# EAGLE library part INA240A1PWR (library INA240A1PWR)
-4 to 80V, bidirectional, ultra-precise current sense amplifier with enhanced PWM rejection 8-TSSOP -40 to 125 Check availability <https://pricing.snapeda.com/parts/INA240A1PWR/Texas%20Instruments/view-part?ref=eda>
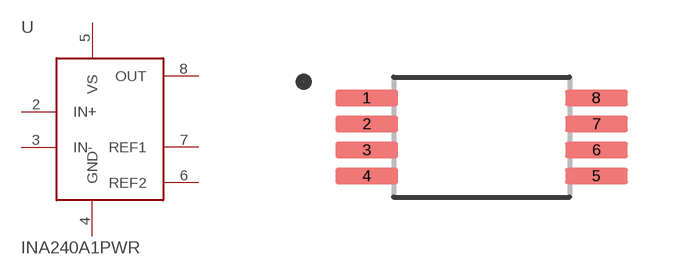
[diagram p0: symbol with the pads of SOP65P640X120-8N; footprint SOP65P640X120-8N]

Designator prefix U

## INA240A1PWR (AVAILABILITY: In Stock; DESCRIPTION: -4 to 80V, bidirectional, ultra-precise current sense amplifier with enhanced PWM rejection 8-TSSOP -40 to 125; MF: Texas Instruments; MP: INA240A1PWR; PACKAGE: TSSOP-8 Texas Instruments; PRICE: None; PURCHASE-URL: https://pricing.snapeda.com/search/part/INA240A1PWR/?ref=eda)  [SOP65P640X120-8N]
2  IN+  in
3  IN-  in
4  GND  pwr
5  VS  pwr
6  REF2  in
7  REF1  in
8  OUT  out

## Footprint SOP65P640X120-8N (pad centres in mm)
smd 1.57 x 0.41: 1 -2.87,0.975; 2 -2.87,0.325; 3 -2.87,-0.325; 4 -2.87,-0.975; 5 2.87,-0.975; 6 2.87,-0.325; 7 2.87,0.325; 8 2.87,0.975